# Altium schematic symbol library Schlib1.SchLib: 4 symbols
Pins are listed as number, name and electrical type; pins without a type are passive.

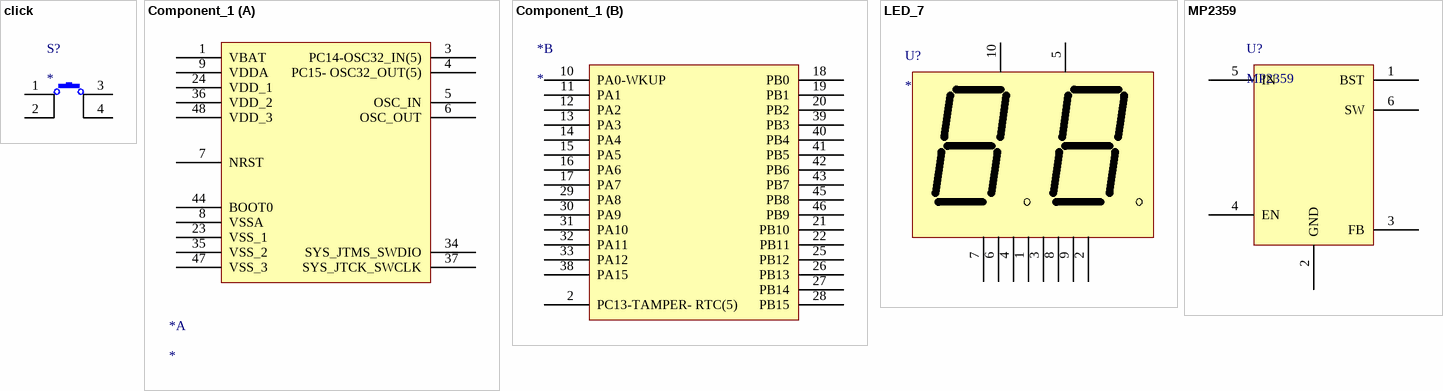
[diagram p0: symbols click to MP2359]

## click
designator S?
pins: 1, 2, 3, 4

## Component_1
designator *
part A pins: 1 VBAT, 3 PC14-OSC32_IN(5), 4 PC15- OSC32_OUT(5), 5 OSC_IN, 6 OSC_OUT, 7 NRST, 8 VSSA, 9 VDDA, 23 VSS_1, 24 VDD_1, 34 SYS_JTMS_SWDIO, 35 VSS_2, 36 VDD_2, 37 SYS_JTCK_SWCLK, 44 BOOT0, 47 VSS_3, 48 VDD_3
part B pins: 2 PC13-TAMPER- RTC(5), 10 PA0-WKUP, 11 PA1, 12 PA2, 13 PA3, 14 PA4, 15 PA5, 16 PA6, 17 PA7, 18 PB0, 19 PB1, 20 PB2, 21 PB10, 22 PB11, 25 PB12, 26 PB13, 27 PB14, 28 PB15, 29 PA8, 30 PA9, 31 PA10, 32 PA11, 33 PA12, 38 PA15, 39 PB3, 40 PB4, 41 PB5, 42 PB6, 43 PB7, 45 PB8, 46 PB9

## LED_7
designator U?
pins: 1 D, 2 P, 3 E, 4 C, 5 COM, 6 B, 7 A, 8 F, 9 G, 10 COM

## MP2359
designator U?
pins: 1 BST, 2 GND, 3 FB, 4 EN, 5 IN, 6 SW